# Altium schematic symbol library 3296W-1-103.SchLib: 1 symbol
Pins are listed as number, name and electrical type; pins without a type are passive.

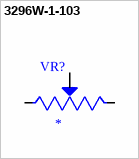
[diagram p0: symbol 3296W-1-103]

## 3296W-1-103
designator VR?
MF: {'manufacturer': u'Bourns'}; MP: 3296W-1-103; Package: None; Price: None; Value: *; Availability: Unavailable
footprint TRIM_3296W-1-103
pins: 1 CCW, 2 WIPER, 3 CW